# EAGLE library part IRF7416TRPBF (library IRF7416TRPBF)
INFINEON - IRF7416TRPBF - MOSFET Transistor, P Channel, 10 A, 30 V, 0.02 ohm, 10 V, 2.04 V Source: Datasheet <https://componentsearchengine.com/Datasheets/2/IRF7416TRPBF.pdf>
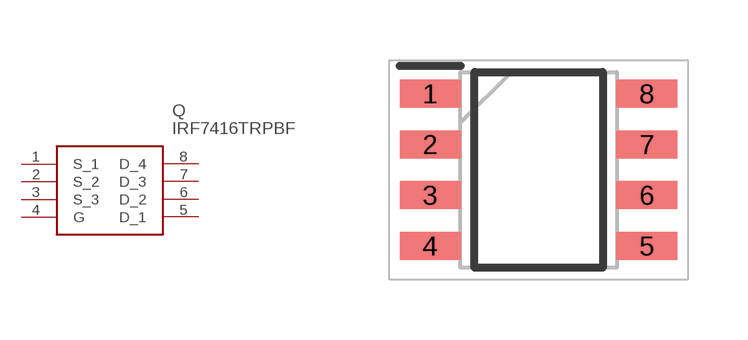
[diagram p0: symbol with the pads of SOIC127P600X175-8N; footprint SOIC127P600X175-8N]

Designator prefix Q

## IRF7416TRPBF (Description: INFINEON - IRF7416TRPBF - MOSFET Transistor, P Channel, 10 A, 30 V, 0.02 ohm, 10 V, 2.04 V; Height: 1.75mm; Manufacturer_Name: Infineon; Manufacturer_Part_Number: IRF7416TRPBF; Mouser_Part_Number: 942-IRF7416TRPBF; Mouser_Price-Stock: https://www.mouser.co.uk/ProductDetail/Infineon-Technologies/IRF7416TRPBF?qs=9%252BKlkBgLFf1tuhXoEVAcyA%3D%3D)  [SOIC127P600X175-8N]
1  S_1
2  S_2
3  S_3
4  G
5  D_1
6  D_2
7  D_3
8  D_4

## Footprint SOIC127P600X175-8N (pad centres in mm)
IRF7416TRPBF
smd 1.525 x 0.7: 1 -2.712,1.905; 2 -2.712,0.635; 3 -2.712,-0.635; 4 -2.712,-1.905; 5 2.712,-1.905; 6 2.712,-0.635; 7 2.712,0.635; 8 2.712,1.905